# EAGLE library part THS4022 (library TI)
350MHz Low-Noise High-Speed Amplifier (Texas Instruments)
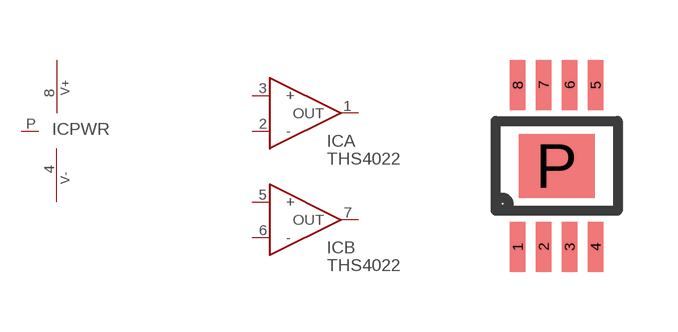
[diagram p7: symbol with the pads of MSOP8-P; footprint MSOP8-P]

Designator prefix IC; gates A=OPAMP B=OPAMP PWR=ICPWR-P

## THS4022DGN  [MSOP8-P]
1  A:OUT
2  A:-
3  A:+
4  PWR:V-  pwr
5  B:+
6  B:-
7  B:OUT
8  PWR:V+  pwr
P  PWR:PAD

## Footprint MSOP8-P (pad centres in mm)
Texas Instruments MSOP8 package, 0.65mm pitch
smd 0.38 x 1.25: 1 -0.975,-2.025; 2 -0.325,-2.025; 3 0.325,-2.025; 4 0.975,-2.025; 5 0.975,2.025; 6 0.325,2.025; 7 -0.325,2.025; 8 -0.975,2.025
smd 1.9 x 1.6: P 0,0